# Altium schematic symbol library freescaleLib.SchLib: 1 symbol
Pins are listed as number, name and electrical type; pins without a type are passive.

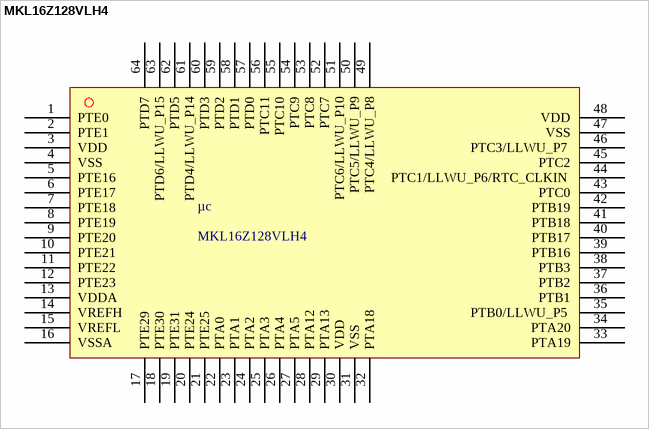
[diagram p0: symbol MKL16Z128VLH4]

## MKL16Z128VLH4
designator µc
footprint LQFP64_N (Thin QFP, 64-Leads, Body 10x10mm, Pitch 0.5mm, IPC Medium Density)
pins: 1 PTE0, 2 PTE1, 3 VDD, 4 VSS, 5 PTE16, 6 PTE17, 7 PTE18, 8 PTE19, 9 PTE20, 10 PTE21, 11 PTE22, 12 PTE23, 13 VDDA, 14 VREFH, 15 VREFL, 16 VSSA, 17 PTE29, 18 PTE30, 19 PTE31, 20 PTE24, 21 PTE25, 22 PTA0, 23 PTA1, 24 PTA2, 25 PTA3, 26 PTA4, 27 PTA5, 28 PTA12, 29 PTA13, 30 VDD, 31 VSS, 32 PTA18, 33 PTA19, 34 PTA20, 35 PTB0/LLWU_P5 , 36 PTB1, 37 PTB2, 38 PTB3, 39 PTB16, 40 PTB17, 41 PTB18, 42 PTB19, 43 PTC0, 44 PTC1/LLWU_P6/RTC_CLKIN , 45 PTC2, 46 PTC3/LLWU_P7 , 47 VSS, 48 VDD, 49 PTC4/LLWU_P8, 50 PTC5/LLWU_P9, 51 PTC6/LLWU_P10, 52 PTC7, 53 PTC8, 54 PTC9, 55 PTC10, 56 PTC11, 57 PTD0, 58 PTD1, 59 PTD2, 60 PTD3, 61 PTD4/LLWU_P14, 62 PTD5, 63 PTD6/LLWU_P15, 64 PTD7